# Altium schematic symbol library ref-source.SchLib: 11 symbols
Pins are listed as number, name and electrical type; pins without a type are passive.

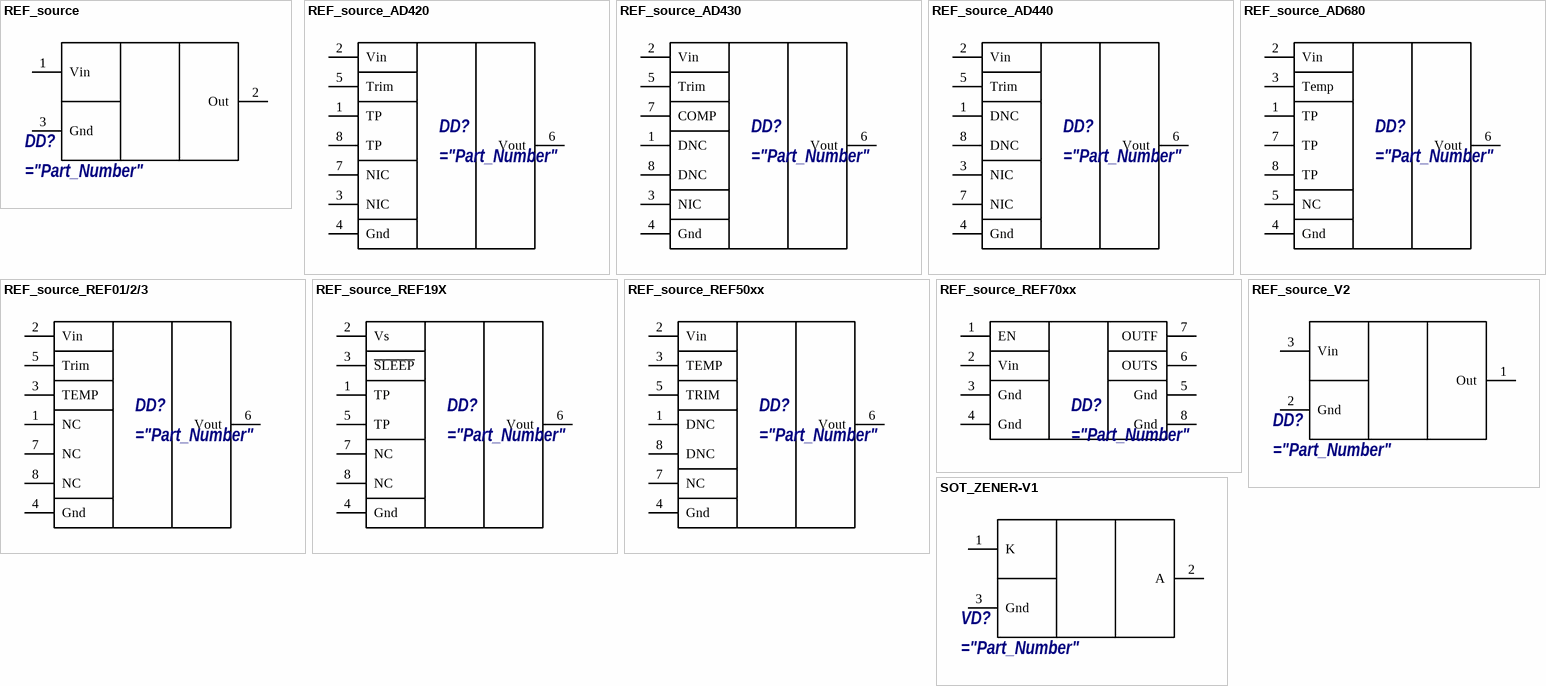
[diagram p0: symbols REF_source to SOT_ZENER-V1]

## REF_source
designator DD?
="Description"
pins: 1 Vin, 2 Out, 3 Gnd

## REF_source_AD420
designator DD?
="Description"
pins: 1 TP, 2 Vin, 3 NIC, 4 Gnd, 5 Trim, 6 Vout, 7 NIC, 8 TP

## REF_source_AD430
designator DD?
="Description"
pins: 1 DNC, 2 Vin, 3 NIC, 4 Gnd, 5 Trim, 6 Vout, 7 COMP, 8 DNC

## REF_source_AD440
designator DD?
="Description"
pins: 1 DNC, 2 Vin, 3 NIC, 4 Gnd, 5 Trim, 6 Vout, 7 NIC, 8 DNC

## REF_source_AD680
designator DD?
="Description"
pins: 1 TP, 2 Vin, 3 Temp, 4 Gnd, 5 NC, 6 Vout, 7 TP, 8 TP

## REF_source_REF01/2/3
designator DD?
="Description"
pins: 1 NC, 2 Vin, 3 TEMP, 4 Gnd, 5 Trim, 6 Vout, 7 NC, 8 NC

## REF_source_REF19X
designator DD?
="Description"
pins: 1 TP, 2 Vs, 3 ~{SLEEP}, 4 Gnd, 5 TP, 6 Vout, 7 NC, 8 NC

## REF_source_REF50xx
designator DD?
="Description"
pins: 1 DNC, 2 Vin, 3 TEMP, 4 Gnd, 5 TRIM, 6 Vout, 7 NC, 8 DNC

## REF_source_REF70xx
designator DD?
="Description"
pins: 1 EN, 2 Vin, 3 Gnd, 4 Gnd, 5 Gnd, 6 OUTS, 7 OUTF, 8 Gnd

## REF_source_V2
designator DD?
="Description"
pins: 1 Out, 2 Gnd, 3 Vin

## SOT_ZENER-V1
designator VD?
="Description"
pins: 1 K, 2 A, 3 Gnd